# Altium footprint library SHIELD_ARDUINO_UNO.PcbLib: 1 footprints
Each footprint in its own frame and in the unit in brackets; x right, y up, seen from the top. Pads: shape width x height; smd on the part's side, far side on the other; paste and mask are expansions set on the pad; w line width, h text height; cw(c..) or ccw(c..) is an arc to the next point about the centre after c.
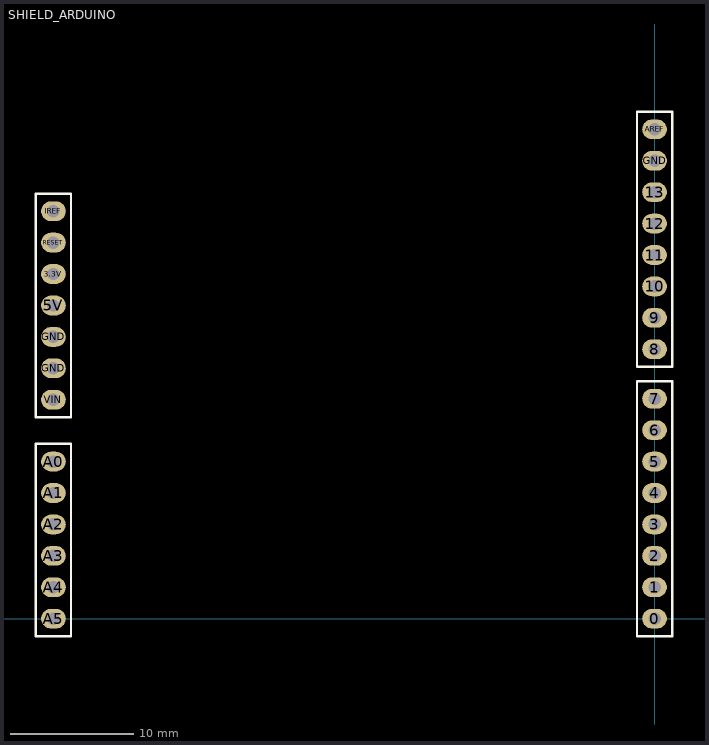
[diagram p0: the footprint, top view; thin cyan lines are the x and y axes]

## SHIELD_ARDUINO [mm]
pads (29):
  oval 2x1.6 hole 1: 0(0,0) 1(0,2.54) 2(0,5.08) 3(0,7.62) 3.3V(-48.6,27.86) 4(0,10.16) 5(0,12.7) 5V(-48.6,25.32) 6(0,15.24) 7(0,17.78) 8(0,21.78) 9(0,24.32) 10(0,26.86) 11(0,29.4) 12(0,31.94) 13(0,34.48) A0(-48.6,12.7) A1(-48.6,10.16) A2(-48.6,7.62) A3(-48.6,5.08) A4(-48.6,2.54) A5(-48.6,0) AREF(0,39.56) GND(-48.6,20.24) GND(-48.6,22.78) GND(0,37.02) IREF(-48.6,32.94) RESET(-48.6,30.4) VIN(-48.6,17.7)
Top Overlay:
  lines w0.2: -50.022,-1.422 -47.178,-1.422 -47.178,14.122 -50.022,14.122 -50.022,-1.422 ; -50.022,16.278 -47.178,16.278 -47.178,34.362 -50.022,34.362 -50.022,16.278 ; -1.422,-1.422 1.422,-1.422 1.422,19.202 -1.422,19.202 -1.422,-1.422 ; -1.422,20.358 1.422,20.358 1.422,40.982 -1.422,40.982 -1.422,20.358
3D body "shield Uno pins.STEP": height 5.65, standoff -5.69, extent -49.845,-1.263 1.295,40.837